# Altium schematic symbol library CN 14POS JST ZE SMT.Schlib: 1 symbol
Pins are listed as number, name and electrical type; pins without a type are passive.

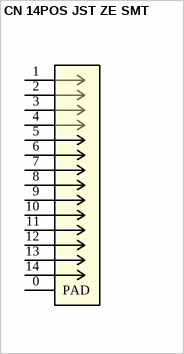
[diagram p0: symbol CN 14POS JST ZE SMT]

## CN 14POS JST ZE SMT
designator J?, comment BM14B-ZESS-TBT(LF)(SN)
CONN HEADER VERT SMD 14POS ZE
footprint JST ZE SMT 14POS (14 POS HDR JST ZE)
pins: 0 PAD, 1, 2, 3, 4, 5, 6, 7, 8, 9, 10, 11, 12, 13, 14